# Altium footprint library 1-776280-1.PcbLib: 2 footprints
Each footprint in its own frame and in the unit in brackets; x right, y up, seen from the top. Pads: shape width x height; smd on the part's side, far side on the other; paste and mask are expansions set on the pad; w line width, h text height; cw(c..) or ccw(c..) is an arc to the next point about the centre after c.
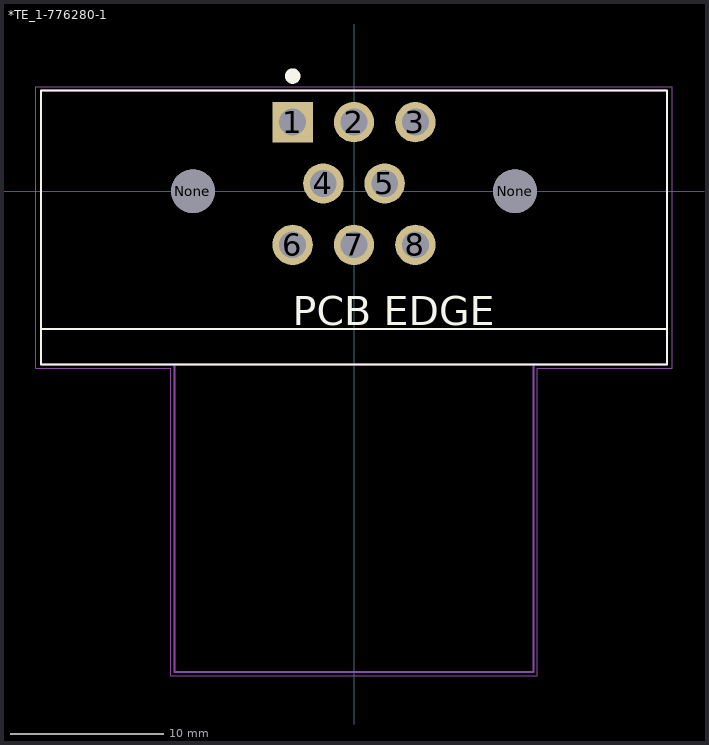
[diagram p0: the footprints below, top view; thin cyan lines are the x and y axes]

## *TE_1-776280-1 [mm]
pads (10):
  rect 2.625x2.625 hole 1.75: 1(-4,4.5)
  round 2.625 hole 1.75: 2(0,4.5) 3(4,4.5) 4(-2,0.5) 5(2,0.5) 6(-4,-3.5) 7(0,-3.5) 8(4,-3.5)
  round 2.85 hole 2.85 unplated: None(-10.5,0) None(10.5,0)
Top Overlay:
  circle w0.5: c-4,7.5 r0.25
  lines w0.127: -20.4,-9 -20.4,-11.3 11.7,-11.3 20.4,-11.3 20.4,-9 ; -20.4,-9 -20.4,6.55 20.4,6.55 20.4,-9 ; -20.4,-9 20.4,-9
  text "PCB EDGE" at -4.003,-8.757 h1.88
Mechanical 4:
  lines w0.127: -20.4,-11.3 -11.7,-11.3 ; -20.4,-11.3 -20.4,-9 ; -20.4,-11.3 -11.7,-11.3 ; -20.4,-11.3 -20.4,-9 ; -20.4,-9 -20.4,6.55 ; -20.4,-9 20.4,-9 ; -20.4,-9 -20.4,6.55 ; -20.4,-9 20.4,-9 ; -20.4,6.55 20.4,6.55 ; -20.4,6.55 20.4,6.55 ; -11.7,-31.35 -11.7,-11.3 ; -11.7,-31.35 11.7,-31.35 ; -11.7,-31.35 -11.7,-11.3 ; -11.7,-31.35 11.7,-31.35 ; -11.7,-11.3 11.7,-11.3 ; -11.7,-11.3 11.7,-11.3 ; 11.7,-31.35 11.7,-11.3 ; 11.7,-31.35 11.7,-11.3 ; 11.7,-11.3 20.4,-11.3 ; 11.7,-11.3 20.4,-11.3 ; 20.4,-11.3 20.4,-9 ; 20.4,-11.3 20.4,-9 ; 20.4,-9 20.4,6.55 ; 20.4,-9 20.4,6.55
  text "PCB EDGE" at -4.005,-8.76 h1.88
  text "PCB EDGE" at -4.005,-8.76 h1.88
Mechanical 16:
  lines w0.05: -20.75,-11.55 -20.75,6.8 20.75,6.8 20.75,-11.55 11.95,-11.55 11.95,-31.6 -11.95,-31.6 -11.95,-11.55 -20.75,-11.55

## PCBComponent_1 [mm]